# EAGLE library part 0713085406 (library Badge_v202004081200_Eagle_Library_regex)
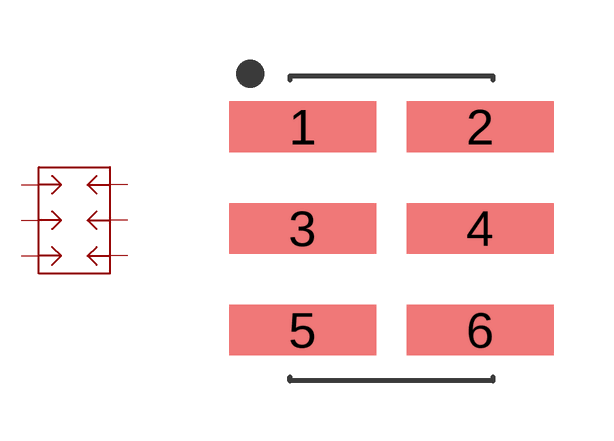
[diagram p9: symbol with the pads of MOLEX_HDR-2X3S_2.54X2.54_8X6; footprint MOLEX_HDR-2X3S_2.54X2.54_8X6]

Designator prefix J

## 0713085406 (DATASHEET: http://datasheets.diptrace.com/con_headers/015916502_sd.pdf; MANUFACTURER: Molex)  [MOLEX_HDR-2X3S_2.54X2.54_8X6]
1  MISO  pas
2  5V0  pas
3  SCLK  pas
4  MOSI  pas
5  NRST  pas
6  GND  pas

## Footprint MOLEX_HDR-2X3S_2.54X2.54_8X6 (pad centres in mm)
smd 3.68 x 1.27: 1 -2.42,2.34; 2 2.02,2.34; 3 -2.42,-0.2; 4 2.02,-0.2; 5 -2.42,-2.74; 6 2.02,-2.74